# Altium footprint library AD9689_210326.PcbLib: 22 footprints (part 1 of 2)
Each footprint in its own frame and in the unit in brackets; x right, y up, seen from the top. Pads: shape width x height; smd on the part's side, far side on the other; paste and mask are expansions set on the pad; w line width, h text height; cw(c..) or ccw(c..) is an arc to the next point about the centre after c.
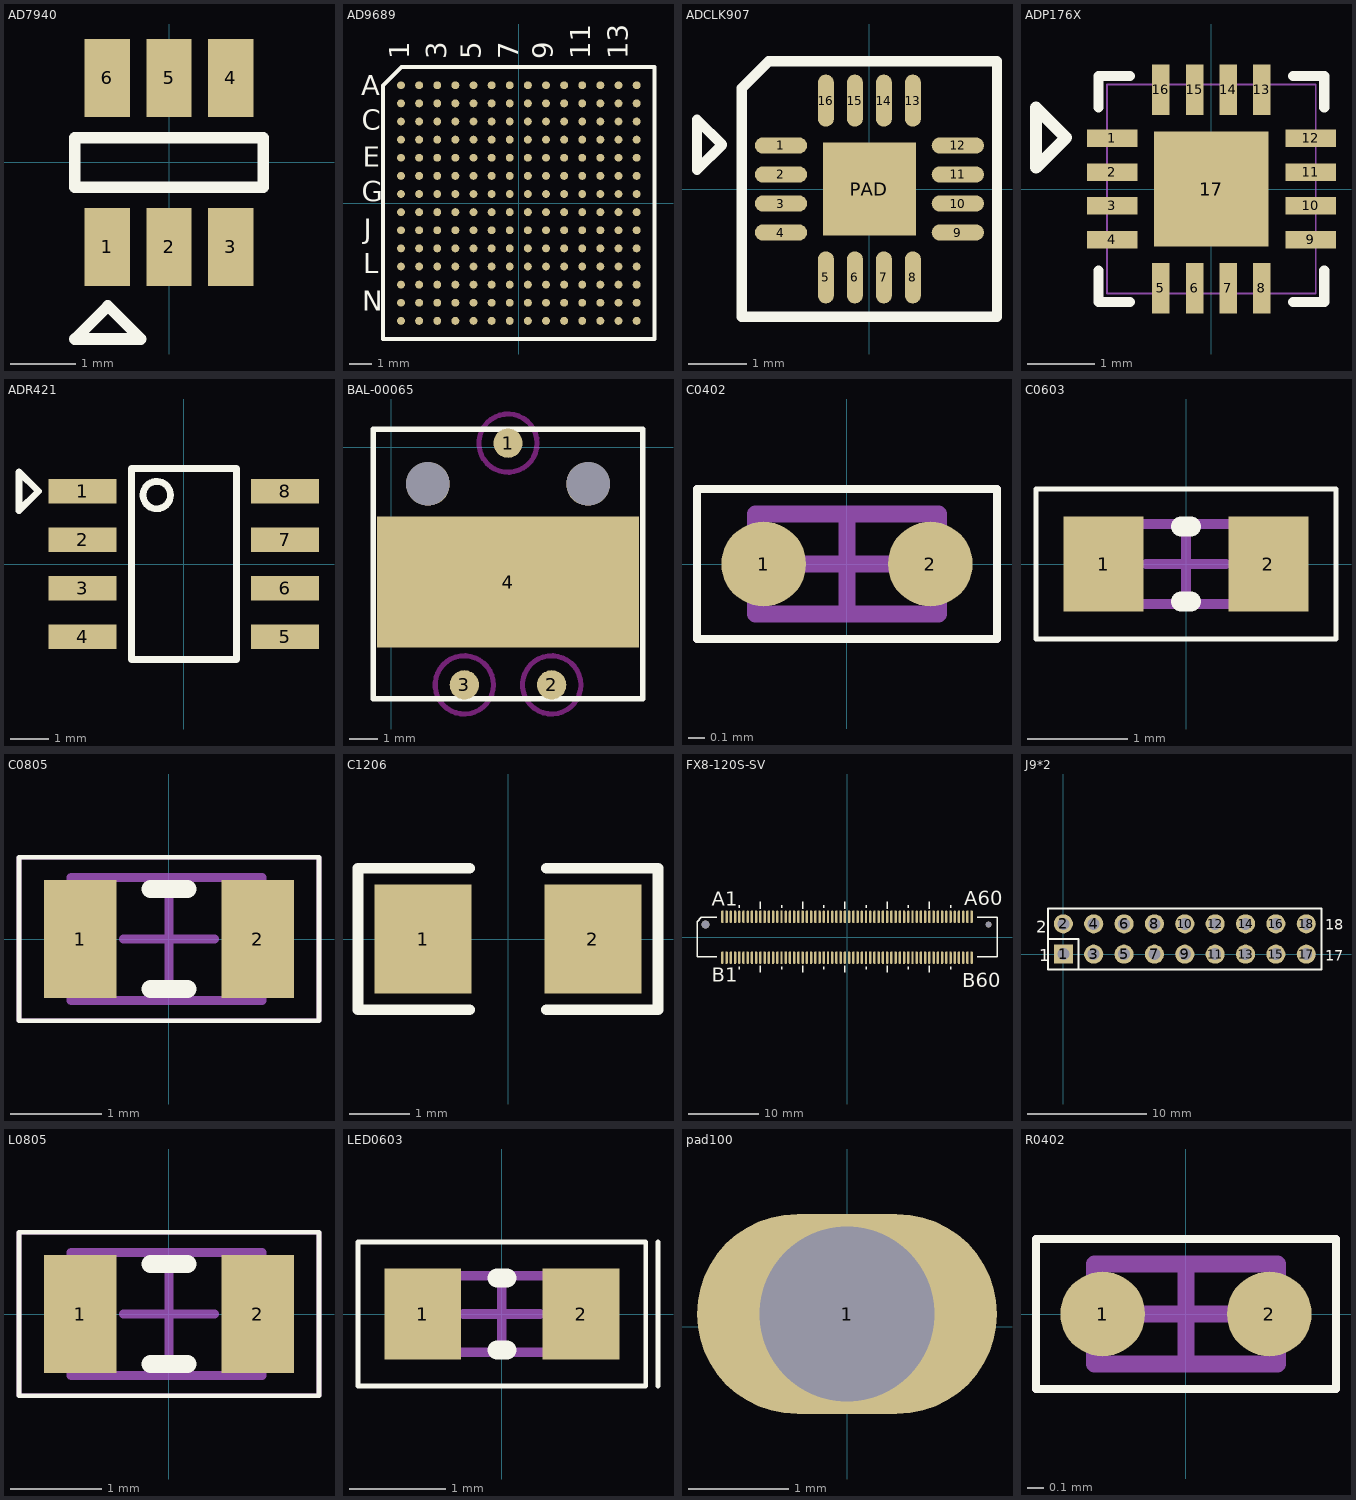
[diagram p0: the footprints below, top view; thin cyan lines are the x and y axes]

## AD7940 [mm]
pads (6):
  rect 0.7x1.2 smd: 1(-0.95,-1.3) 2(0,-1.3) 3(0.95,-1.3) 4(0.95,1.3) 5(0,1.3) 6(-0.95,1.3)
Top Overlay:
  lines w0.178: -1.45,-0.381 1.45,-0.381 1.45,0.381 -1.45,0.381 -1.45,-0.381 ; -1.448,-2.718 -0.94,-2.21 -0.432,-2.718 -1.448,-2.718

## AD9689 [mm]
pads (196):
  round 0.35 smd: A1(-5.2,5.2) A2(-4.4,5.2) A3(-3.6,5.2) A4(-2.8,5.2) A5(-2,5.2) A6(-1.2,5.2) A7(-0.4,5.2) A8(0.4,5.2) A9(1.2,5.2) A10(2,5.2) A11(2.8,5.2) A12(3.6,5.2) A13(4.4,5.2) A14(5.2,5.2) B1(-5.2,4.4) B2(-4.4,4.4) B3(-3.6,4.4) B4(-2.8,4.4) B5(-2,4.4) B6(-1.2,4.4) B7(-0.4,4.4) B8(0.4,4.4) B9(1.2,4.4) B10(2,4.4) B11(2.8,4.4) B12(3.6,4.4) B13(4.4,4.4) B14(5.2,4.4) C1(-5.2,3.6) C2(-4.4,3.6) C3(-3.6,3.6) C4(-2.8,3.6) C5(-2,3.6) C6(-1.2,3.6) C7(-0.4,3.6) C8(0.4,3.6) C9(1.2,3.6) C10(2,3.6) C11(2.8,3.6) C12(3.6,3.6) C13(4.4,3.6) C14(5.2,3.6) D1(-5.2,2.8) D2(-4.4,2.8) D3(-3.6,2.8) D4(-2.8,2.8) D5(-2,2.8) D6(-1.2,2.8) D7(-0.4,2.8) D8(0.4,2.8) D9(1.2,2.8) D10(2,2.8) D11(2.8,2.8) D12(3.6,2.8) D13(4.4,2.8) D14(5.2,2.8) E1(-5.2,2) E2(-4.4,2) E3(-3.6,2) E4(-2.8,2) E5(-2,2) E6(-1.2,2) E7(-0.4,2) E8(0.4,2) E9(1.2,2) E10(2,2) E11(2.8,2) E12(3.6,2) E13(4.4,2) E14(5.2,2) F1(-5.2,1.2) F2(-4.4,1.2) F3(-3.6,1.2) F4(-2.8,1.2) F5(-2,1.2) F6(-1.2,1.2) F7(-0.4,1.2) F8(0.4,1.2) F9(1.2,1.2) F10(2,1.2) F11(2.8,1.2) F12(3.6,1.2) F13(4.4,1.2) F14(5.2,1.2) G1(-5.2,0.4) G2(-4.4,0.4) G3(-3.6,0.4) G4(-2.8,0.4) G5(-2,0.4) G6(-1.2,0.4) G7(-0.4,0.4) G8(0.4,0.4) G9(1.2,0.4) G10(2,0.4) G11(2.8,0.4) G12(3.6,0.4) G13(4.4,0.4) G14(5.2,0.4) H1(-5.2,-0.4) H2(-4.4,-0.4) H3(-3.6,-0.4) H4(-2.8,-0.4) H5(-2,-0.4) H6(-1.2,-0.4) H7(-0.4,-0.4) H8(0.4,-0.4) H9(1.2,-0.4) H10(2,-0.4) H11(2.8,-0.4) H12(3.6,-0.4) H13(4.4,-0.4) H14(5.2,-0.4) J1(-5.2,-1.2) J2(-4.4,-1.2) J3(-3.6,-1.2) J4(-2.8,-1.2) J5(-2,-1.2) J6(-1.2,-1.2) J7(-0.4,-1.2) J8(0.4,-1.2) J9(1.2,-1.2) J10(2,-1.2) J11(2.8,-1.2) J12(3.6,-1.2) J13(4.4,-1.2) J14(5.2,-1.2) K1(-5.2,-2) K2(-4.4,-2) K3(-3.6,-2) K4(-2.8,-2) K5(-2,-2) K6(-1.2,-2) K7(-0.4,-2) K8(0.4,-2) K9(1.2,-2) K10(2,-2) K11(2.8,-2) K12(3.6,-2) K13(4.4,-2) K14(5.2,-2) L1(-5.2,-2.8) L2(-4.4,-2.8) L3(-3.6,-2.8) L4(-2.8,-2.8) L5(-2,-2.8) L6(-1.2,-2.8) L7(-0.4,-2.8) L8(0.4,-2.8) L9(1.2,-2.8) L10(2,-2.8) L11(2.8,-2.8) L12(3.6,-2.8) L13(4.4,-2.8) L14(5.2,-2.8) M1(-5.2,-3.6) M2(-4.4,-3.6) M3(-3.6,-3.6) M4(-2.8,-3.6) M5(-2,-3.6) M6(-1.2,-3.6) M7(-0.4,-3.6) M8(0.4,-3.6) M9(1.2,-3.6) M10(2,-3.6) M11(2.8,-3.6) M12(3.6,-3.6) M13(4.4,-3.6) M14(5.2,-3.6) N1(-5.2,-4.4) N2(-4.4,-4.4) N3(-3.6,-4.4) N4(-2.8,-4.4) N5(-2,-4.4) N6(-1.2,-4.4) N7(-0.4,-4.4) N8(0.4,-4.4) N9(1.2,-4.4) N10(2,-4.4) N11(2.8,-4.4) N12(3.6,-4.4) N13(4.4,-4.4) N14(5.2,-4.4) P1(-5.2,-5.2) P2(-4.4,-5.2) P3(-3.6,-5.2) P4(-2.8,-5.2) P5(-2,-5.2) P6(-1.2,-5.2) P7(-0.4,-5.2) P8(0.4,-5.2) P9(1.2,-5.2) P10(2,-5.2) P11(2.8,-5.2) P12(3.6,-5.2) P13(4.4,-5.2) P14(5.2,-5.2)
Top Overlay:
  lines w0.178: -6,-6 -6,5.182 -5.182,6 -5.156,6 6,6 6,-6 -6,-6
  text "1" at -4.846,6.353 h0.89
  text "J" at -6.837,-1.58 h0.89
  text "A" at -6.953,4.769 h0.89
  text "C" at -6.934,3.245 h0.89
  text "E" at -6.895,1.594 h0.89
  text "G" at -6.934,0.07 h0.89
  text "L" at -6.876,-3.105 h0.89
  text "N" at -6.915,-4.756 h0.89
  text "3" at -3.195,6.353 h0.89
  text "13" at 4.806,6.353 h0.89
  text "11" at 3.155,6.353 h0.89
  text "9" at 1.504,6.353 h0.89
  text "7" at -0.02,6.353 h0.89
  text "5" at -1.671,6.353 h0.89

## ADCLK907 [mm]
pads (17):
  oval 0.9x0.28 smd: 1(-1.524,0.75) 2(-1.524,0.25) 3(-1.524,-0.25) 4(-1.524,-0.75) 9(1.524,-0.75) 10(1.524,-0.25) 11(1.524,0.25) 12(1.524,0.75)
  oval 0.28x0.9 smd: 5(-0.75,-1.524) 6(-0.25,-1.524) 7(0.25,-1.524) 8(0.75,-1.524) 13(0.75,1.524) 14(0.25,1.524) 15(-0.25,1.524) 16(-0.75,1.524)
  rect 1.6x1.6 smd: PAD(0,0)
Top Overlay:
  lines w0.178: -2.972,0.33 -2.54,0.762 -2.972,1.194 -2.972,0.33 ; -2.2,-2.2 2.2,-2.2 2.2,2.2 -1.737,2.2 -2.159,1.778 -2.2,1.737 -2.2,-2.2

## ADP176X [mm]
pads (17):
  rect 0.75x0.26 smd paste+0: 1(-1.475,0.75) 2(-1.475,0.25) 3(-1.475,-0.25) 4(-1.475,-0.75) 9(1.475,-0.75) 10(1.475,-0.25) 11(1.475,0.25) 12(1.475,0.75)
  rect 0.26x0.75 smd paste+0: 5(-0.75,-1.475) 6(-0.25,-1.475) 7(0.25,-1.475) 8(0.75,-1.475) 13(0.75,1.475) 14(0.25,1.475) 15(-0.25,1.475) 16(-0.75,1.475)
  rect 1.7x1.7 smd: 17(0,0)
Top Overlay:
  lines w0.152: -1.677,-1.213 -1.677,-1.677 -1.213,-1.677 ; -1.677,1.213 -1.677,1.677 -1.213,1.677 ; 1.213,-1.677 1.677,-1.677 1.677,-1.213 ; 1.213,1.677 1.677,1.677 1.677,1.213
  lines w0.178: -2.603,0.318 -2.159,0.762 -2.603,1.206 -2.603,0.318
Mechanical 13:
  lines w0.025: -1.55,-1.55 1.55,-1.55 1.55,1.55 -1.55,1.55 -1.55,-1.55 ; -1.55,-0.9 -1.55,-0.6 -1.55,-0.9 ; -1.55,-0.4 -1.55,-0.1 -1.55,-0.4 ; -1.55,0.1 -1.55,0.4 -1.55,0.1 ; -1.55,0.6 -1.55,0.9 -1.55,0.6 ; -0.9,-1.55 -0.6,-1.55 -0.9,-1.55 ; -0.9,1.55 -0.6,1.55 -0.9,1.55 ; -0.4,-1.55 -0.1,-1.55 -0.4,-1.55 ; -0.4,1.55 -0.1,1.55 -0.4,1.55 ; 0.1,-1.55 0.4,-1.55 0.1,-1.55 ; 0.1,1.55 0.4,1.55 0.1,1.55 ; 0.6,-1.55 0.9,-1.55 0.6,-1.55 ; 0.6,1.55 0.9,1.55 0.6,1.55 ; 1.55,-0.9 1.55,-0.6 1.55,-0.9 ; 1.55,-0.4 1.55,-0.1 1.55,-0.4 ; 1.55,0.1 1.55,0.4 1.55,0.1 ; 1.55,0.6 1.55,0.9 1.55,0.6
  text "*" at -1.005,0.591 h0.89

## ADR421 [mm]
pads (8):
  rect 1.778x0.635 smd: 1(-2.65,1.905) 2(-2.65,0.635) 3(-2.65,-0.635) 4(-2.65,-1.905) 5(2.65,-1.905) 6(2.65,-0.635) 7(2.65,0.635) 8(2.65,1.905)
Top Overlay:
  circle w0.178: c-0.709,1.805 r0.359
  lines w0.178: -4.318,1.397 -4.318,2.413 -3.81,1.905 -4.318,1.397 ; -1.372,-2.5 1.377,-2.5 1.377,2.5 -1.372,2.5 -1.372,-2.5

## BAL-00065 [mil]
pads (6):
  round 40.2 smd mask+4: 1(160,6) 2(220,-326) 3(100,-326)
  rect 360x180 smd mask+4: 4(160,-185)
  round 60 hole 60 unplated mask+4: ""(50,-50) ""(270,-50)
Top Overlay:
  lines w7: -25,-345 -25,25 345,25 345,-345 -25,-345
Keep-Out Layer:
  circle w7: c220,-326 r40
  circle w7: c100,-326 r40
  circle w7: c160,6 r40
Drill Drawing:
  lines w7: 0,-320 0,0 320,0 320,-320 0,-320

## C0402 [mil]
height 11.81
pads (2):
  round 20 smd: 1(-19.68,0) 2(19.68,0)
Top Overlay:
  lines w1.97: -35.43,-17.72 -35.43,17.72 35.43,17.72 35.43,-17.72 -35.43,-17.72
Mechanical 13:
  lines w3.94: -21.65,-11.81 21.65,-11.81 21.65,11.81 -21.65,11.81 -21.65,-11.81
Mechanical 15:
  lines w1.97: -35.43,-17.72 -35.43,17.72 35.43,17.72 35.43,-17.72 -35.43,-17.72
  lines w3.94: -9.84,0 9.84,0 ; 0,-9.84 0,9.84
3D body "C 0402.STEP": height 20.68, standoff 0.21, extent -19.68,-10.23 19.69,10.24

## C0603 [mm]
height 1.2
pads (2):
  rect 0.8x0.95 smd: 1(-0.825,0) 2(0.825,0)
Top Overlay:
  lines w0.05: -1.5,-0.75 -1.5,0.75 1.5,0.75 1.5,-0.75 -1.5,-0.75
  lines w0.2: -0.05,-0.375 0.05,-0.375 ; -0.05,0.375 0.05,0.375
Mechanical 13:
  lines w0.1: -0.8,-0.4 -0.8,0.4 0.8,0.4 0.8,-0.4 -0.8,-0.4
Mechanical 15:
  lines w0.1: -0.4,0 0.4,0 ; 0,-0.4 0,0.4
3D body "C 0603.STEP": height 0.81, standoff -0.01, extent -0.8,-0.41 0.8,0.41

## C0805 [mm]
height 0.5
pads (2):
  rect 0.8x1.3 smd: 1(-0.975,0) 2(0.975,0)
Top Overlay:
  lines w0.05: -1.65,-0.9 -1.65,0.9 1.65,0.9 1.65,-0.9 -1.65,-0.9
  lines w0.2: -0.2,-0.55 0.2,-0.55 ; -0.2,0.55 0.2,0.55
Mechanical 13:
  lines w0.1: -1.075,-0.675 1.025,-0.675 1.025,0.675 -1.075,0.675 -1.075,-0.675
Mechanical 15:
  lines w0.05: -1.65,-0.9 -1.65,0.9 1.65,0.9 1.65,-0.9 -1.65,-0.9
  lines w0.1: -0.5,0 0.5,0 ; 0,-0.5 0,0.5
3D body "C 0805.STEP": height 0.51, standoff -0.01, extent -1,-0.61 1,0.61

## C1206 [mm]
pads (2):
  rect 1.6x1.8 smd: 1(-1.4,0) 2(1.4,0)
Top Overlay:
  lines w0.178: -0.635,-1.168 -2.476,-1.168 -2.476,1.168 -0.635,1.168 ; 0.635,-1.168 2.476,-1.168 2.476,1.168 0.635,1.168
3D body "C 1206.STEP": height 1.21, standoff -0.01, extent -1.6,-0.81 1.6,0.81

## FX8-120S-SV [mm]
pads (122):
  oval 0.35x1.8 smd mask+0.102: A1(-17.7,2.9) A2(-17.1,2.9) A3(-16.5,2.9) A4(-15.9,2.9) A5(-15.3,2.9) A6(-14.7,2.9) A7(-14.1,2.9) A8(-13.5,2.9) A9(-12.9,2.9) A10(-12.3,2.9) A11(-11.7,2.9) A12(-11.1,2.9) A13(-10.5,2.9) A14(-9.9,2.9) A15(-9.3,2.9) A16(-8.7,2.9) A17(-8.1,2.9) A18(-7.5,2.9) A19(-6.9,2.9) A20(-6.3,2.9) A21(-5.7,2.9) A22(-5.1,2.9) A23(-4.5,2.9) A24(-3.9,2.9) A25(-3.3,2.9) A26(-2.7,2.9) A27(-2.1,2.9) A28(-1.5,2.9) A29(-0.9,2.9) A30(-0.3,2.9) A31(0.3,2.9) A32(0.9,2.9) A33(1.5,2.9) A34(2.1,2.9) A35(2.7,2.9) A36(3.3,2.9) A37(3.9,2.9) A38(4.5,2.9) A39(5.1,2.9) A40(5.7,2.9) A41(6.3,2.9) A42(6.9,2.9) A43(7.5,2.9) A44(8.1,2.9) A45(8.7,2.9) A46(9.3,2.9) A47(9.9,2.9) A48(10.5,2.9) A49(11.1,2.9) A50(11.7,2.9) A51(12.3,2.9) A52(12.9,2.9) A53(13.5,2.9) A54(14.1,2.9) A55(14.7,2.9) A56(15.3,2.9) A57(15.9,2.9) A58(16.5,2.9) A59(17.1,2.9) A60(17.7,2.9) B1(-17.7,-2.9) B2(-17.1,-2.9) B3(-16.5,-2.9) B4(-15.9,-2.9) B5(-15.3,-2.9) B6(-14.7,-2.9) B7(-14.1,-2.9) B8(-13.5,-2.9) B9(-12.9,-2.9) B10(-12.3,-2.9) B11(-11.7,-2.9) B12(-11.1,-2.9) B13(-10.5,-2.9) B14(-9.9,-2.9) B15(-9.3,-2.9) B16(-8.7,-2.9) B17(-8.1,-2.9) B18(-7.5,-2.9) B19(-6.9,-2.9) B20(-6.3,-2.9) B21(-5.7,-2.9) B22(-5.1,-2.9) B23(-4.5,-2.9) B24(-3.9,-2.9) B25(-3.3,-2.9) B26(-2.7,-2.9) B27(-2.1,-2.9) B28(-1.5,-2.9) B29(-0.9,-2.9) B30(-0.3,-2.9) B31(0.3,-2.9) B32(0.9,-2.9) B33(1.5,-2.9) B34(2.1,-2.9) B35(2.7,-2.9) B36(3.3,-2.9) B37(3.9,-2.9) B38(4.5,-2.9) B39(5.1,-2.9) B40(5.7,-2.9) B41(6.3,-2.9) B42(6.9,-2.9) B43(7.5,-2.9) B44(8.1,-2.9) B45(8.7,-2.9) B46(9.3,-2.9) B47(9.9,-2.9) B48(10.5,-2.9) B49(11.1,-2.9) B50(11.7,-2.9) B51(12.3,-2.9) B52(12.9,-2.9) B53(13.5,-2.9) B54(14.1,-2.9) B55(14.7,-2.9) B56(15.3,-2.9) B57(15.9,-2.9) B58(16.5,-2.9) B59(17.1,-2.9) B60(17.7,-2.9)
  round 1.1 hole 1.1 unplated mask+0.102: ""(-20.1,1.8)
  round 0.8 hole 0.8 unplated mask+0.102: ""(20.1,1.8)
Top Overlay:
  lines w0.178: -18.5,-2.8 -21.3,-2.8 -21.3,2.195 -20.695,2.8 -18.5,2.8 ; -15.291,-4.547 -15.291,-4.166 ; -15.291,4.166 -15.291,4.547 ; -12.319,-5.004 -12.319,-4.064 ; -12.319,4.064 -12.319,5.004 ; -9.291,-4.547 -9.291,-4.166 ; -9.291,4.166 -9.291,4.547 ; -6.319,-5.004 -6.319,-4.064 ; -6.319,4.064 -6.319,5.004 ; -3.291,-4.547 -3.291,-4.166 ; -3.291,4.166 -3.291,4.547 ; -0.319,-5.004 -0.319,-4.064 ; -0.319,4.064 -0.319,5.004 ; 2.709,-4.547 2.709,-4.166 ; 2.709,4.166 2.709,4.547 ; 5.681,-5.004 5.681,-4.064 ; 5.681,4.064 5.681,5.004 ; 8.709,-4.547 8.709,-4.166 ; 8.709,4.166 8.709,4.547 ; 11.681,-5.004 11.681,-4.064 ; 11.681,4.064 11.681,5.004 ; 14.709,-4.547 14.709,-4.166 ; 14.709,4.166 14.709,4.547 ; 18.5,-2.8 21.3,-2.8 21.3,2.8 18.5,2.8
  text "B60" at 16.383,-7.112 h2.03
  text "A60" at 16.637,4.572 h2.03
  text "B1" at -19.177,-6.35 h2.03
  text "A1" at -19.177,4.445 h2.03

## J9*2 [mm]
pads (18):
  rect 1.6x1.6 hole 1: 1(0,0)
  round 1.6 hole 1: 2(0,2.54) 3(2.54,0) 4(2.54,2.54) 5(5.08,0) 6(5.08,2.54) 7(7.62,0) 8(7.62,2.54) 9(10.16,0) 10(10.16,2.54) 11(12.7,0) 12(12.7,2.54) 13(15.24,0) 14(15.24,2.54) 15(17.78,0) 16(17.78,2.54) 17(20.32,0) 18(20.32,2.54)
Top Overlay:
  lines w0.178: -1.27,1.27 1.27,1.27 1.27,-1.27 ; -1.27,-1.27 21.59,-1.27 21.59,3.81 -1.27,3.81 -1.27,-1.27
  text "18" at 21.895,2.032 h0.89
  text "17" at 21.92,-0.559 h0.89
  text "1" at -2.032,-0.584 h1.02
  text "2" at -2.286,1.778 h1.02

## L0805 [mm]
height 0.5
pads (2):
  rect 0.8x1.3 smd: 1(-0.975,0) 2(0.975,0)
Top Overlay:
  lines w0.05: -1.65,-0.9 -1.65,0.9 1.65,0.9 1.65,-0.9 -1.65,-0.9
  lines w0.2: -0.2,-0.55 0.2,-0.55 ; -0.2,0.55 0.2,0.55
Mechanical 13:
  lines w0.1: -1.075,-0.675 1.025,-0.675 1.025,0.675 -1.075,0.675 -1.075,-0.675
Mechanical 15:
  lines w0.05: -1.65,-0.9 -1.65,0.9 1.65,0.9 1.65,-0.9 -1.65,-0.9
  lines w0.1: -0.5,0 0.5,0 ; 0,-0.5 0,0.5
3D body "0805.STEP": height 0.9, standoff 0, extent -1,-0.6 1,0.6

## LED0603 [mm]
height 1.2
pads (2):
  rect 0.8x0.95 smd: 1(-0.825,0) 2(0.825,0)
Top Overlay:
  lines w0.05: 1.627,-0.75 1.627,0.75 ; -1.5,-0.75 -1.5,0.75 1.5,0.75 1.5,-0.75 -1.5,-0.75
  lines w0.2: -0.05,-0.375 0.05,-0.375 ; -0.05,0.375 0.05,0.375
Mechanical 13:
  lines w0.1: -0.8,-0.4 -0.8,0.4 0.8,0.4 0.8,-0.4 -0.8,-0.4
Mechanical 15:
  lines w0.1: -0.4,0 0.4,0 ; 0,-0.4 0,0.4
3D body "LED 0603-R.STEP": height 0.47, standoff 0, extent -0.8,-0.401 0.8,0.401

## pad100 [mm]
pads (1):
  oval 3x2 hole 1.75: 1(0,0.127)

## R0402 [mil]
height 11.81
pads (2):
  round 20 smd: 1(-19.68,0) 2(19.68,0)
Top Overlay:
  lines w1.97: -35.43,-17.72 35.43,-17.72 35.43,17.72 -35.43,17.72 -35.43,-17.72
Mechanical 13:
  lines w3.94: -21.65,-11.81 -21.65,11.81 21.65,11.81 21.65,-11.81 -21.65,-11.81
Mechanical 15:
  lines w1.97: -35.43,-17.72 35.43,-17.72 35.43,17.72 -35.43,17.72 -35.43,-17.72
  lines w3.94: -9.84,0 9.84,0 ; 0,-9.84 0,9.84
3D body "R0402.STEP": height 13.78, standoff 0, extent -19.68,-9.84 19.69,9.85